# EAGLE library part IC_MCU_ATTINY44 (library lieBtrau)
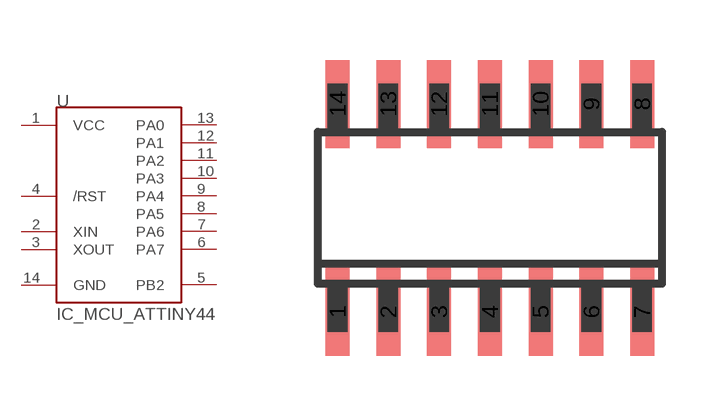
[diagram p0: symbol with the pads of SC_SO14; footprint SC_SO14]

Designator prefix U

## IC_MCU_ATTINY44_ATTINY44A_SSU (COST: 1.28; ORDERCODE: ATTINY44A-SSU-ND; VALUE: ATTINY44A-SSU)  [SC_SO14]
1  VCC
2  XIN
3  XOUT
4  /RST
5  PB2
6  PA7
7  PA6
8  PA5
9  PA4
10  PA3
11  PA2
12  PA1
13  PA0
14  GND

## Footprint SC_SO14 (pad centres in mm)
SMALL OUTLINE INTEGRATED CIRCUIT body 3.9 mm/JEDEC MS-012AC
smd 0.6 x 2.2: 1 -3.81,-2.6; 2 -2.54,-2.6; 3 -1.27,-2.6; 4 0,-2.6; 5 1.27,-2.6; 6 2.54,-2.6; 7 3.81,-2.6; 8 3.81,2.6; 9 2.54,2.6; 10 1.27,2.6; 11 0,2.6; 12 -1.27,2.6; 13 -2.54,2.6; 14 -3.81,2.6